# Altium footprint library PCB.PcbLib: 6 footprints
Each footprint in its own frame and in the unit in brackets; x right, y up, seen from the top. Pads: shape width x height; smd on the part's side, far side on the other; paste and mask are expansions set on the pad; w line width, h text height; cw(c..) or ccw(c..) is an arc to the next point about the centre after c.
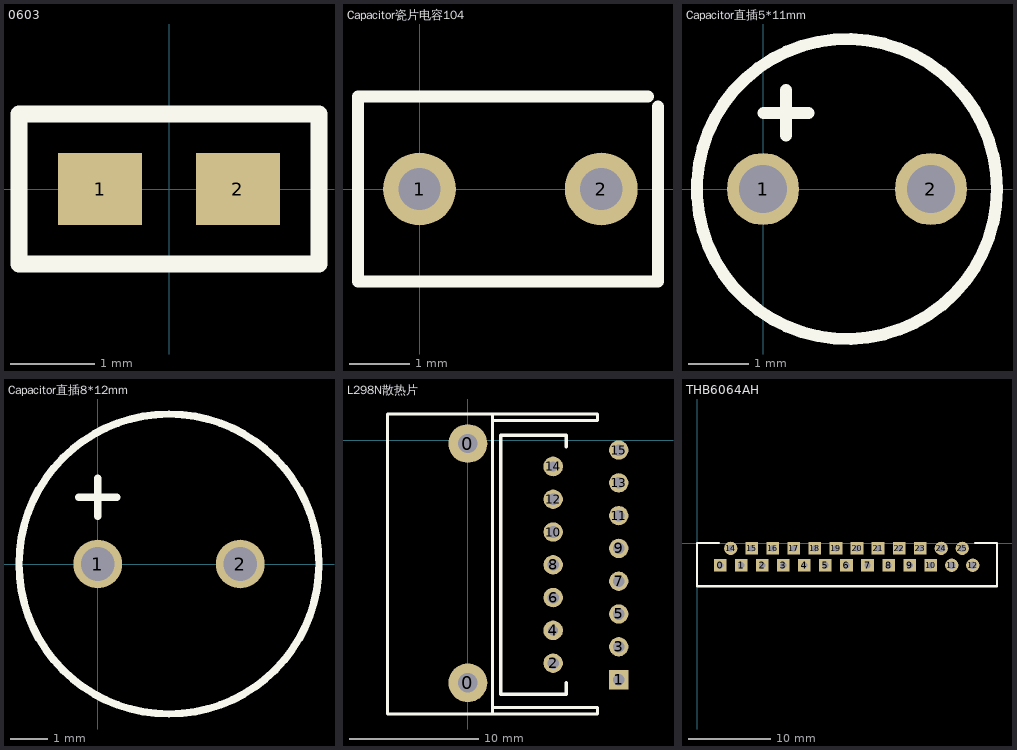
[diagram p0: the footprints below, top view; thin cyan lines are the x and y axes]

## 0603 [mm]
pads (2):
  rect 1x0.85 smd: 1(-0.817,0) 2(0.818,0)
Top Overlay:
  lines w0.2: -1.778,-0.889 -1.778,0 -1.778,0.889 1.778,0.889 1.778,-0.889 -1.778,-0.889

## Capacitor瓷片电容104 [mm]
pads (2):
  round 1.2 hole 0.7: 1(0,0) 2(3,0)
Top Overlay:
  lines w0.2: 3.775,1.524 -1.016,1.524 -1.016,-1.524 3.937,-1.524 3.937,0 3.937,1.362

## Capacitor直插5*11mm [mm]
pads (2):
  round 1.2 hole 0.8: 1(0,0) 2(2.8,0)
Top Overlay:
  circle w0.2: c1.4,0 r2.5
  lines w0.2: 0.008,1.27 0.762,1.27 ; 0.381,0.889 0.381,1.651

## Capacitor直插8*12mm [mm]
pads (2):
  round 1.3 / inner round 1.2 / far side round 1.3 hole 0.9: 1(0,0) 2(3.8,0)
Top Overlay:
  circle w0.2: c1.9,0 r4
  lines w0.2: -0.508,1.778 0.508,1.778 ; 0,1.27 0,2.286

## L298N散热片 [mm]
pads (17):
  round 3 hole 1.5: 0(0,-18.796) 0(0,-0.254)
  rect 1.5x1.5 hole 0.9: 1(11.684,-18.542)
  round 1.5 hole 0.9: 2(6.604,-17.272) 3(11.684,-16.002) 5(11.684,-13.462) 6(6.604,-12.192) 7(11.684,-10.922) 8(6.604,-9.652) 9(11.684,-8.382) 10(6.604,-7.112) 11(11.684,-5.842) 12(6.604,-4.572) 13(11.684,-3.302) 15(11.684,-0.762)
  round 1.524 hole 0.762: 4(6.604,-14.732) 14(6.604,-2.032)
Top Overlay:
  lines w0.254: 1.905,-20.701 10.033,-20.701 10.033,-21.209 1.905,-21.209 ; 1.905,1.524 10.033,1.524 10.033,2.032 9.779,2.032 1.905,2.032 ; 7.62,-18.796 7.62,-19.685 4.953,-19.685 2.54,-19.685 2.54,0.381 4.953,0.381 7.62,0.381 7.62,-0.508 ; 1.905,-21.209 -6.223,-21.209 -6.223,2.032 1.905,2.032 ; 1.905,-21.209 1.905,-20.066 1.905,-19.05 1.905,2.032

## THB6064AH [mil]
pads (25):
  rect 60x60 hole 30: 0(110,-105) 1(210,-105) 2(310,-105) 3(410,-105) 4(510,-105) 5(610,-105) 6(710,-105) 7(810,-105) 8(910,-105) 9(1010,-105) 10(1110,-105) 15(260,-25) 16(360,-25) 17(460,-25) 18(560,-25) 19(660,-25) 20(760,-25) 21(860,-25) 22(960,-25) 23(1060,-25)
  round 62.99 hole 35.43: 11(1210,-105) 12(1310,-105) 24(1160,-25) 25(1260,-25)
  round 62.99 hole 30: 14(160,-25)
Top Overlay:
  lines w10: 105,0 0,0 0,-205 1425,-205 1425,0 1320,0